# Altium footprint library TRANS_PSMN5R5-60YS_115.PcbLib: 1 footprints
Each footprint in its own frame and in the unit in brackets; x right, y up, seen from the top. Pads: shape width x height; smd on the part's side, far side on the other; paste and mask are expansions set on the pad; w line width, h text height; cw(c..) or ccw(c..) is an arc to the next point about the centre after c.
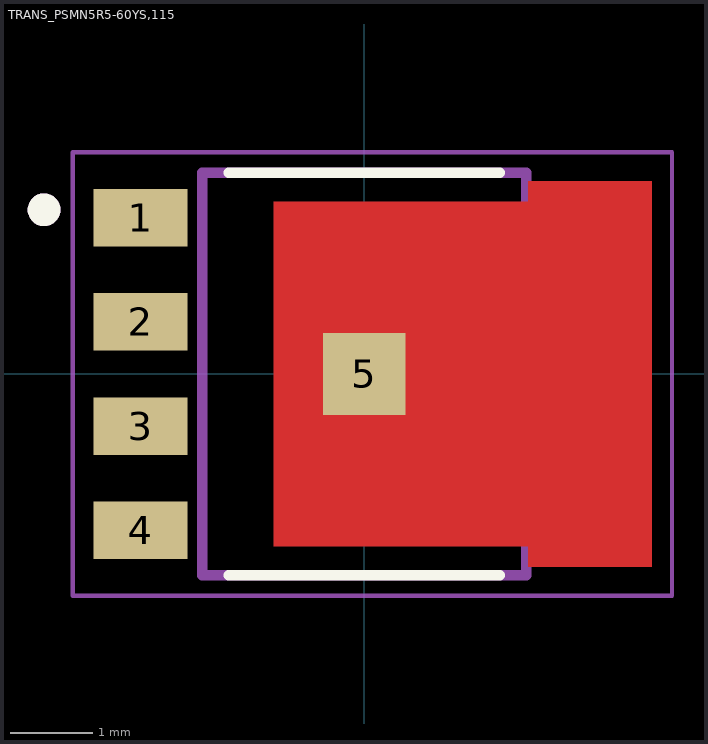
[diagram p0: the footprint, top view; thin cyan lines are the x and y axes]

## TRANS_PSMN5R5-60YS,115 [mm]
pads (5):
  rect 1.15x0.7 smd paste-2 mask+0: 1(-2.725,1.905) 2(-2.725,0.635) 3(-2.725,-0.635) 4(-2.725,-1.905)
  rect 1x1 smd paste-1 mask+0: 5(0,0)
Top Layer:
  region: 3.5,-2.35 2,-2.35 2,-2.1 -1.1,-2.1 -1.1,2.1 2,2.1 2,2.35 3.5,2.35
Top Overlay:
  circle w0.2: c-3.9,2 r0.1
  lines w0.127: -1.65,-2.45 1.65,-2.45 ; -1.65,2.45 1.65,2.45
Top Paste:
  region: 0.6,-0.45 0,-0.45 0,0.45 0.6,0.45
  region: -0.25,-0.45 -0.85,-0.45 -0.85,0.45 -0.25,0.45
  region: 1.45,-0.45 0.85,-0.45 0.85,0.45 1.45,0.45
  region: 1.45,0.7 0.85,0.7 0.85,1.6 1.45,1.6
  region: 0.6,0.7 0,0.7 0,1.6 0.6,1.6
  region: -0.25,0.7 -0.85,0.7 -0.85,1.6 -0.25,1.6
  region: 1.45,-1.6 0.85,-1.6 0.85,-0.7 1.45,-0.7
  region: 0.6,-1.6 0,-1.6 0,-0.7 0.6,-0.7
  region: -0.25,-1.6 -0.85,-1.6 -0.85,-0.7 -0.25,-0.7
  region: 3.45,1.575 2.55,1.575 2.55,2.175 3.45,2.175
  region: 3.45,-2.175 2.55,-2.175 2.55,-1.575 3.45,-1.575
  region: 3.45,0.3 2.55,0.3 2.55,0.9 3.45,0.9
  region: 3.45,-0.9 2.55,-0.9 2.55,-0.3 3.45,-0.3
  region: -2.2,0.335 -3.25,0.335 -3.25,0.935 -2.2,0.935
  region: -2.2,1.605 -3.25,1.605 -3.25,2.205 -2.2,2.205
  region: -2.2,-0.935 -3.25,-0.935 -3.25,-0.335 -2.2,-0.335
  region: -2.2,-2.205 -3.25,-2.205 -3.25,-1.605 -2.2,-1.605
Top Solder:
  region: 3.575,-2.425 1.925,-2.425 1.925,-2.175 -1.175,-2.175 -1.175,2.175 1.925,2.175 1.925,2.425 3.575,2.425
  region: -2.075,0.21 -3.375,0.21 -3.375,1.06 -2.075,1.06
  region: -2.075,1.48 -3.375,1.48 -3.375,2.33 -2.075,2.33
  region: -2.075,-1.06 -3.375,-1.06 -3.375,-0.21 -2.075,-0.21
  region: -2.075,-2.33 -3.375,-2.33 -3.375,-1.48 -2.075,-1.48
Mechanical 13:
  circle w0.2: c-3.9,2 r0.1
  lines w0.127: -1.975,-2.45 1.975,-2.45 1.975,2.45 -1.975,2.45 -1.975,-2.45
Mechanical 15:
  lines w0.05: -3.55,-2.7 3.75,-2.7 3.75,2.7 -3.55,2.7 -3.55,-2.7
3D body "step_temp.STEP": height 1.2, standoff 0, extent -3,-2.45 3,2.45